# EAGLE library part PINHEAD_1X18 (library pinhead)
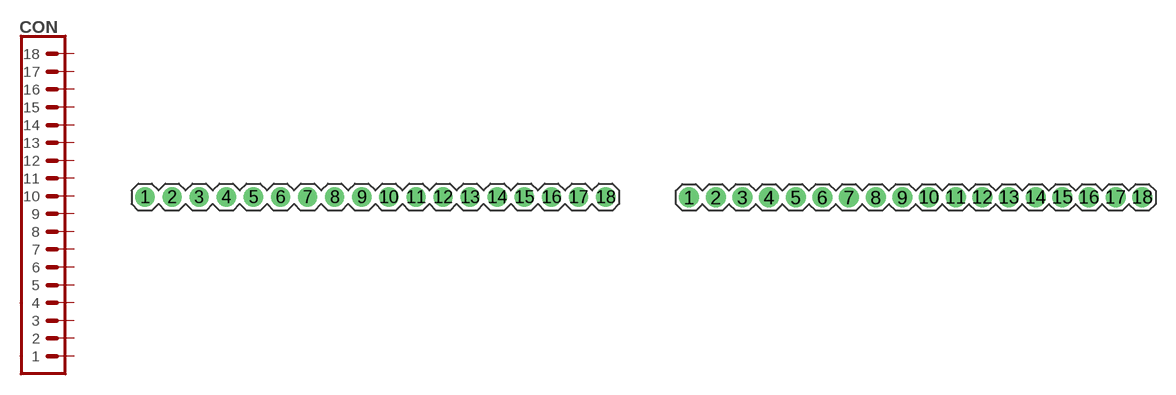
[diagram p14: symbol with the pads of PLS18; footprints PLS18, PLS2-18]

Designator prefix CON

## PINHEAD_1X18-2.54-STRAIGHT-MALE  [PLS18]
1  1  pas
2  2  pas
3  3  pas
4  4  pas
5  5  pas
6  6  pas
7  7  pas
8  8  pas
9  9  pas
10  10  pas
11  11  pas
12  12  pas
13  13  pas
14  14  pas
15  15  pas
16  16  pas
17  17  pas
18  18  pas

## PINHEAD_1X18-2-STRAIGHT-MALE  [PLS2-18]
Pads as for PLS18

## Footprint PLS18 (pad centres in mm)
3D model <https://grabcad.com/library/pls-connectors-1>
drill 1 pad 1.8: 1 -21.59,0; 2 -19.05,0; 3 -16.51,0; 4 -13.97,0; 5 -11.43,0; 6 -8.89,0; 7 -6.35,0; 8 -3.81,0; 9 -1.27,0; 10 1.27,0; 11 3.81,0; 12 6.35,0; 13 8.89,0; 14 11.43,0; 15 13.97,0; 16 16.51,0; 17 19.05,0; 18 21.59,0

## Footprint PLS2-18 (pad centres in mm)
3D model <https://grabcad.com/library/pls2-connectors-1>
drill 0.8 pad 1.5: 1 -17,0; 2 -15,0; 3 -13,0; 4 -11,0; 5 -9,0; 6 -7,0; 7 -5,0; 8 -3,0; 9 -1,0; 10 1,0; 11 3,0; 12 5,0; 13 7,0; 14 9,0; 15 11,0; 16 13,0; 17 15,0; 18 17,0